# EAGLE library part TPS40211DGQR (library TPS40211DGQR)
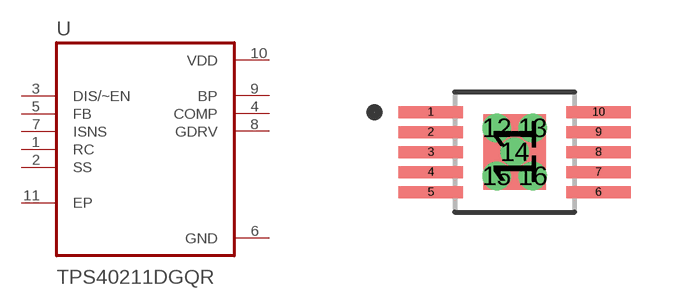
[diagram p0: symbol with the pads of IC_XTR111AIDGQR; footprint IC_XTR111AIDGQR]

Designator prefix U

## TPS40211DGQR (Description: Wide Input Range Current Mode Boost Controller 10-HVSSOP -40 to 125; Digi-Key_Part_Number: 296-39398-1-ND; MF: Texas Instruments; MP: TPS40211DGQR; Package: HVSSOP-10 Texas Instruments; Purchase-URL: https://pricing.snapeda.com/search/part/TPS40211DGQR/?ref=eda)  [IC_XTR111AIDGQR]
1  RC  in
2  SS  in
3  DIS/~EN  in
4  COMP  out
5  FB  in
6  GND  pwr
7  ISNS  in
8  GDRV  out
9  BP  out
10  VDD  pwr
11  EP

## Footprint IC_XTR111AIDGQR (pad centres in mm)
smd 1.6 x 0.3: 1 -2.1,1; 2 -2.1,0.5; 3 -2.1,0; 4 -2.1,-0.5; 5 -2.1,-1; 6 2.1,-1; 7 2.1,-0.5; 8 2.1,0; 9 2.1,0.5; 10 2.1,1
smd 1.57 x 1.88: 11 0,0
drill 0.2 pad 0.4: 12 -0.45,0.6; 13 0.45,0.6; 14 0,0; 15 -0.45,-0.6; 16 0.45,-0.6